# Altium integrated library Analog Devices Data Converters Analog-to-Digital Converters.IntLib: 2404 symbols (part 21 of 346)
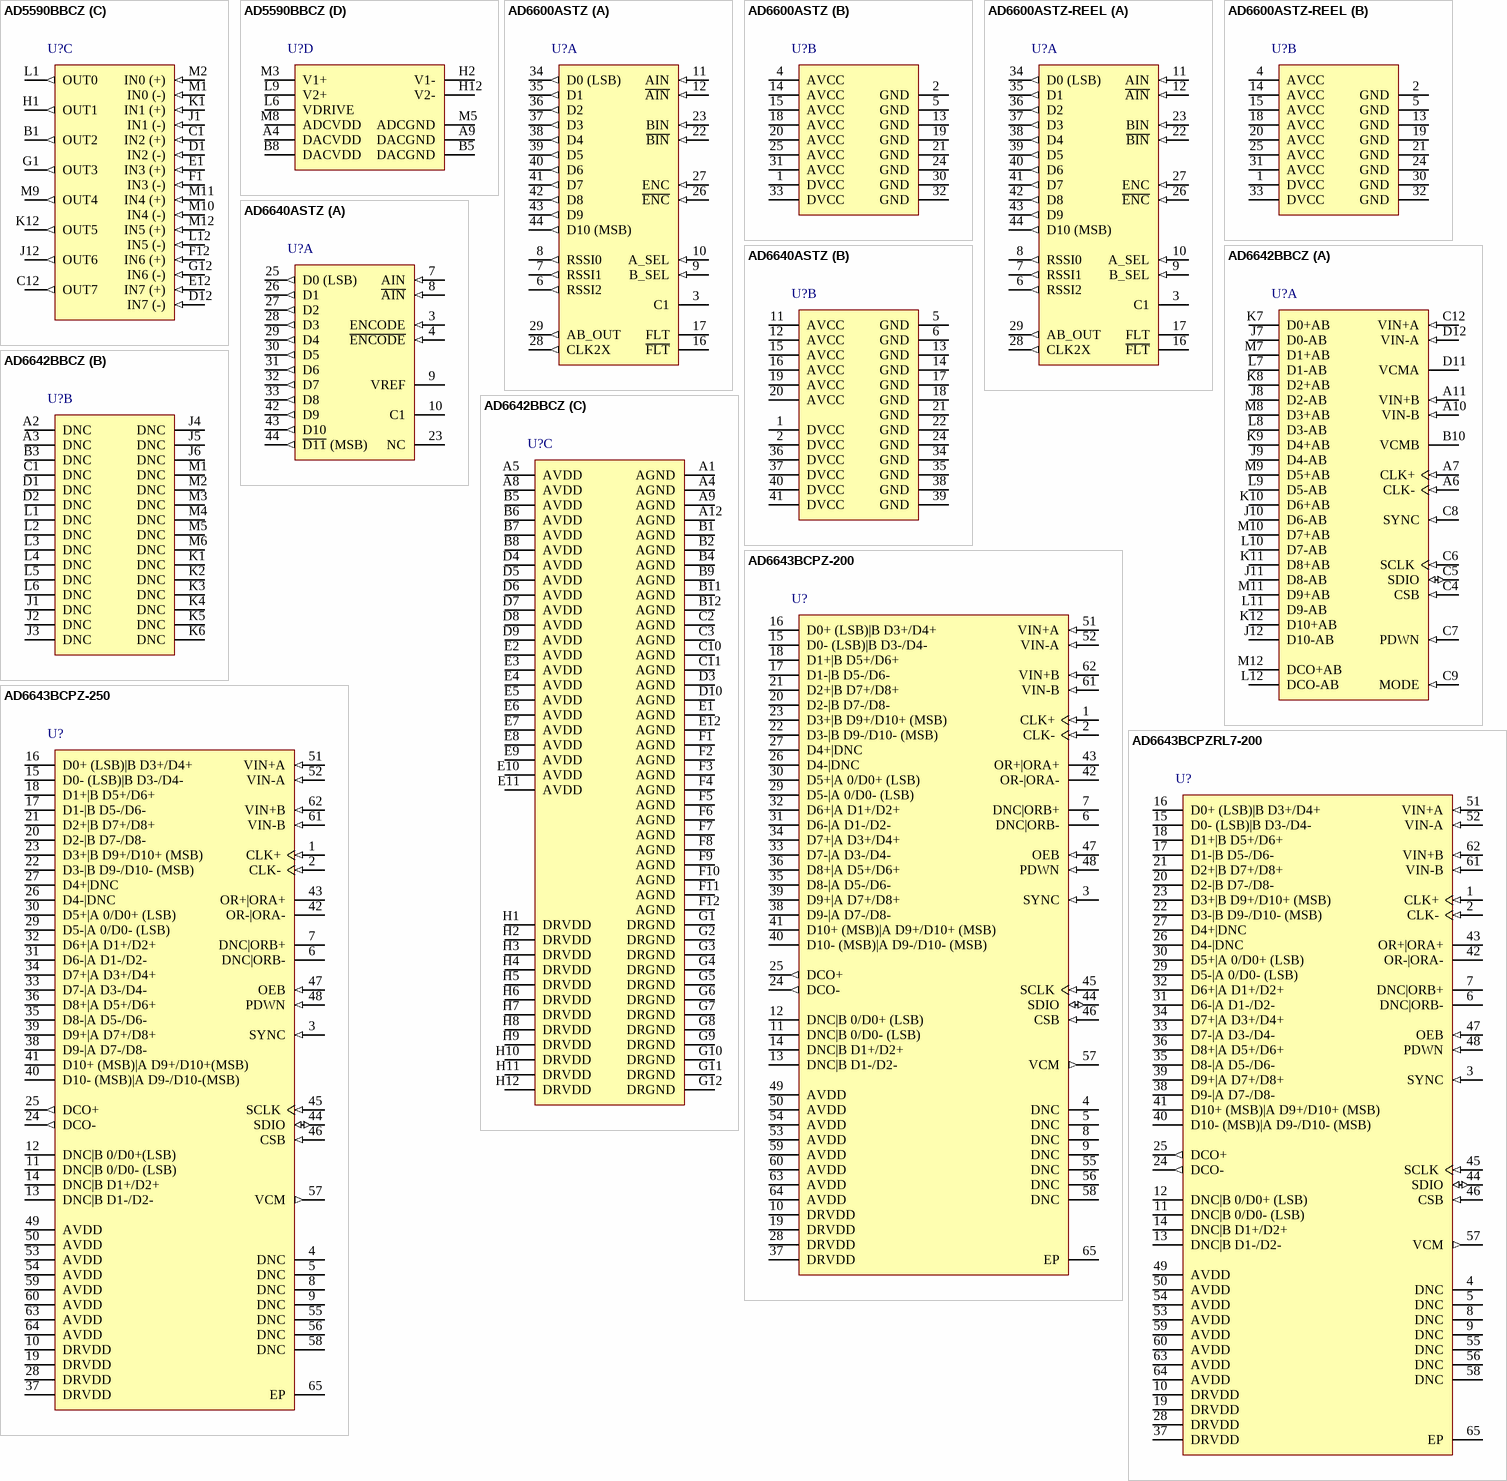
[diagram p166: symbols AD5590BBCZ to AD6643BCPZRL7-200]

## AD6600ASTZ
designator U?
Dual 11-Bit Gain-Ranging Analog-to-Digital Converter with Parallel Interface and RSSI, 20MSPS, -40 to +85 degC, ST-44-1, Pb-Free, Tray; Generic Part Number: AD6600; Manufacturer: Analog Devices; PartNumber: AD6600ASTZ; Resolution (Bits): 11; Channels: 2; Throughput Rate (SPS): 20M; Interface: Par; DatasheetVersion: Rev.0; PackageVersion: 051706-A; PackageReference: ST-44-1; PackageDescription: 44-Lead Low Profile Quad Flat Package [LQFP]; Supplier 1: Digi-Key; Supplier Part Number 1: AD6600ASTZ-ND; Supplier 2: Mouser; Supplier Part Number 2: 584-AD6600ASTZ; RoHS: Y; Packing: Tray; Mounting Technology: Surface Mount; ComponentLink1Description: Manufacturer URL; ComponentLink1URL: http://www.analog.com/en/index.html; ComponentLink2Description: Datasheet; ComponentLink2URL: http://www.analog.com/static/imported-files/data_sheets/AD6600.pdf; ComponentLink3Description: Package Specification; ComponentLink3URL: http://www.analog.com/static/imported-files/packages/52366619645036ST_44_1.pdf; ComponentLink4Description: Product URL; ComponentLink4URL: http://www.analog.com/en/analog-to-digital-converters/ad-converters/ad6600/products/product.html
footprint ST-44-1_N (Thin QFP, 44-Leads, Body 10x10mm, Pitch 0.8mm, IPC Medium Density)
footprint ST-44-1_L (Thin QFP, 44-Leads, Body 10x10mm, Pitch 0.8mm, IPC High Density)
footprint ST-44-1_M (Thin QFP, 44-Leads, Body 10x10mm, Pitch 0.8mm, IPC Low Density)
part A pins: 3 C1 "Internal Bias Point. Bypass by 0.01 uF to GND.", 6 RSSI2 (out) "RSSI Digital Output Bits.", 7 RSSI1 (out) "RSSI Digital Output Bits.", 8 RSSI0 (out) "RSSI Digital Output Bits.", 9 B_SEL (in) "Mode Select Pins for Analog Input Channel A and B Sampling.", 10 A_SEL (in) "Mode Select Pins for Analog Input Channel A and B Sampling.", 11 AIN (in) "True Analog Input Channel A.", 12 ~{AIN} (in) "Complementary Analog Input Channel A.", 16 ~{FLT} "Resonant Filter Pins for External LC Noise Filter.", 17 FLT "Resonant Filter Pins for External LC Noise Filter.", 22 ~{BIN} (in) "Complementary Analog Input Channel B.", 23 BIN (in) "True Analog Input Channel B.", 26 ~{ENC} (in) "Complementary Encode Input.", 27 ENC (in) "True Encode Input.", 28 CLK2X (out) "2x Clock Output Used for Clocking Digital Filter Chips.", 29 AB_OUT (out) "Digital Output Flag Indicating Whether Output Is Input A (High) or B (Low).", 34 D0 (LSB) (out) "Digital Data Output Bit (Least Significant Bit)*.", 35 D1 (out) "Digital Data Output Bits*", 36 D2 (out) "Digital Data Output Bits*", 37 D3 (out) "Digital Data Output Bits*", 38 D4 (out) "Digital Data Output Bits*", 39 D5 (out) "Digital Data Output Bits*", 40 D6 (out) "Digital Data Output Bits*", 41 D7 (out) "Digital Data Output Bits*", 42 D8 (out) "Digital Data Output Bits*", 43 D9 (out) "Digital Data Output Bits*", 44 D10 (MSB) (out) "Digital Data Output Bit (Most Significant Bit)*"
part B pins: 1 DVCC (power) "Digital VCC for Digital Outputs. Can be 3.3 V.", 2 GND (power) "Ground.", 4 AVCC (power) "5 V Power Supply.", 5 GND (power) "Ground.", 13 GND (power) "Ground.", 14 AVCC (power) "5 V Power Supply.", 15 AVCC (power) "5 V Power Supply.", 18 AVCC (power) "5 V Power Supply.", 19 GND (power) "Ground.", 20 AVCC (power) "5 V Power Supply.", 21 GND (power) "Ground.", 24 GND (power) "Ground.", 25 AVCC (power) "5 V Power Supply.", 30 GND (power) "Ground.", 31 AVCC (power) "5 V Power Supply.", 32 GND (power) "Ground.", 33 DVCC (power) "Digital VCC for Digital Outputs. Can be 3.3 V."

## AD6600ASTZ-REEL
designator U?
Dual 11-Bit Gain-Ranging Analog-to-Digital Converter with Parallel Interface and RSSI, 20MSPS, -40 to +85 degC, ST-44-1, Pb-Free, Reel; Generic Part Number: AD6600; Manufacturer: Analog Devices; PartNumber: AD6600ASTZ-REEL; Resolution (Bits): 11; Channels: 2; Throughput Rate (SPS): 20M; Interface: Par; DatasheetVersion: Rev.0; PackageVersion: 051706-A; PackageReference: ST-44-1; PackageDescription: 44-Lead Low Profile Quad Flat Package [LQFP]; Supplier 1: Digi-Key; Supplier Part Number 1: AD6600ASTZ-REEL-ND; Supplier 2: Mouser; Supplier Part Number 2: 584-AD6600ASTZ-R; RoHS: Y; Packing: Reel; Mounting Technology: Surface Mount; ComponentLink1Description: Manufacturer URL; ComponentLink1URL: http://www.analog.com/en/index.html; ComponentLink2Description: Datasheet; ComponentLink2URL: http://www.analog.com/static/imported-files/data_sheets/AD6600.pdf; ComponentLink3Description: Package Specification; ComponentLink3URL: http://www.analog.com/static/imported-files/packages/52366619645036ST_44_1.pdf; ComponentLink4Description: Product URL; ComponentLink4URL: http://www.analog.com/en/analog-to-digital-converters/ad-converters/ad6600/products/product.html
footprint ST-44-1_N (Thin QFP, 44-Leads, Body 10x10mm, Pitch 0.8mm, IPC Medium Density)
footprint ST-44-1_L (Thin QFP, 44-Leads, Body 10x10mm, Pitch 0.8mm, IPC High Density)
footprint ST-44-1_M (Thin QFP, 44-Leads, Body 10x10mm, Pitch 0.8mm, IPC Low Density)
part A pins: 3 C1 "Internal Bias Point. Bypass by 0.01 uF to GND.", 6 RSSI2 (out) "RSSI Digital Output Bits.", 7 RSSI1 (out) "RSSI Digital Output Bits.", 8 RSSI0 (out) "RSSI Digital Output Bits.", 9 B_SEL (in) "Mode Select Pins for Analog Input Channel A and B Sampling.", 10 A_SEL (in) "Mode Select Pins for Analog Input Channel A and B Sampling.", 11 AIN (in) "True Analog Input Channel A.", 12 ~{AIN} (in) "Complementary Analog Input Channel A.", 16 ~{FLT} "Resonant Filter Pins for External LC Noise Filter.", 17 FLT "Resonant Filter Pins for External LC Noise Filter.", 22 ~{BIN} (in) "Complementary Analog Input Channel B.", 23 BIN (in) "True Analog Input Channel B.", 26 ~{ENC} (in) "Complementary Encode Input.", 27 ENC (in) "True Encode Input.", 28 CLK2X (out) "2x Clock Output Used for Clocking Digital Filter Chips.", 29 AB_OUT (out) "Digital Output Flag Indicating Whether Output Is Input A (High) or B (Low).", 34 D0 (LSB) (out) "Digital Data Output Bit (Least Significant Bit)*.", 35 D1 (out) "Digital Data Output Bits*", 36 D2 (out) "Digital Data Output Bits*", 37 D3 (out) "Digital Data Output Bits*", 38 D4 (out) "Digital Data Output Bits*", 39 D5 (out) "Digital Data Output Bits*", 40 D6 (out) "Digital Data Output Bits*", 41 D7 (out) "Digital Data Output Bits*", 42 D8 (out) "Digital Data Output Bits*", 43 D9 (out) "Digital Data Output Bits*", 44 D10 (MSB) (out) "Digital Data Output Bit (Most Significant Bit)*"
part B pins: 1 DVCC (power) "Digital VCC for Digital Outputs. Can be 3.3 V.", 2 GND (power) "Ground.", 4 AVCC (power) "5 V Power Supply.", 5 GND (power) "Ground.", 13 GND (power) "Ground.", 14 AVCC (power) "5 V Power Supply.", 15 AVCC (power) "5 V Power Supply.", 18 AVCC (power) "5 V Power Supply.", 19 GND (power) "Ground.", 20 AVCC (power) "5 V Power Supply.", 21 GND (power) "Ground.", 24 GND (power) "Ground.", 25 AVCC (power) "5 V Power Supply.", 30 GND (power) "Ground.", 31 AVCC (power) "5 V Power Supply.", 32 GND (power) "Ground.", 33 DVCC (power) "Digital VCC for Digital Outputs. Can be 3.3 V."

## AD6640ASTZ
designator U?
Single 12-Bit IF Sampling Analog-to-Digital Converter with Parallel Interface, 65MSPS, -40 to +85 degC, ST-44-1, Pb-Free, Tray; Generic Part Number: AD6640; Manufacturer: Analog Devices; PartNumber: AD6640ASTZ; Resolution (Bits): 12; Channels: 1; Throughput Rate (SPS): 65M; Interface: Par; DatasheetVersion: Rev.A; PackageVersion: 051706-A; PackageReference: ST-44-1; PackageDescription: 44-Lead Low Profile Quad Flat Package [LQFP]; Supplier 1: Digi-Key; Supplier Part Number 1: AD6640ASTZ-ND; Supplier 2: Farnell; Supplier Part Number 2: 2312692; Supplier 3: Newark; Supplier Part Number 3: 08P0871; Supplier 4: Mouser; Supplier Part Number 4: 584-AD6640ASTZ; RoHS: Y; Packing: Tray; Mounting Technology: Surface Mount; ComponentLink1Description: Manufacturer URL; ComponentLink1URL: http://www.analog.com/en/index.html; ComponentLink2Description: Datasheet; ComponentLink2URL: http://www.analog.com/static/imported-files/data_sheets/AD6640.pdf; ComponentLink3Description: Package Specification; ComponentLink3URL: http://www.analog.com/static/imported-files/packages/52366619645036ST_44_1.pdf; ComponentLink4Description: Product URL; ComponentLink4URL: http://www.analog.com/en/analog-to-digital-converters/ad-converters/ad6640/products/product.html
footprint ST-44-1_N (Thin QFP, 44-Leads, Body 10x10mm, Pitch 0.8mm, IPC Medium Density)
footprint ST-44-1_L (Thin QFP, 44-Leads, Body 10x10mm, Pitch 0.8mm, IPC High Density)
footprint ST-44-1_M (Thin QFP, 44-Leads, Body 10x10mm, Pitch 0.8mm, IPC Low Density)
part A pins: 3 ENCODE (in) "Encode Input. Data conversion initiated on rising edge.", 4 ~{ENCODE} (in) "Complement of ENCODE. Drive differentially with ENCODE or bypass to ground for single-ended clock mode. See Encoding the AD6640 section.", 7 AIN (in) "Analog Input", 8 ~{AIN} (in) "Complement of Analog Input", 9 VREF "Internal Voltage Reference. Nominally 2.4 V. Bypass to ground with 0.1 uF + 0.01 uF microwave chip capacitor.", 10 C1 "Internal Bias Point. Bypass to ground with 0.01 uF capacitor.", 23 NC "No Connect", 25 D0 (LSB) (out) "Digital Output Bit (Least Significant Bit)", 26 D1 (out) "Digital Output Bits", 27 D2 (out) "Digital Output Bits", 28 D3 (out) "Digital Output Bits", 29 D4 (out) "Digital Output Bits", 30 D5 (out) "Digital Output Bits", 31 D6 (out) "Digital Output Bits", 32 D7 (out) "Digital Output Bits", 33 D8 (out) "Digital Output Bits", 42 D9 (out) "Digital Output Bits", 43 D10 (out) "Digital Output Bits", 44 ~{D11} (MSB) (out) "Digital Output Bit (Most Significant Bit)"
part B pins: 1 DVCC (power) "3.3 V/5 V Power Supply (Digital). Powers output stage only.", 2 DVCC (power) "3.3 V/5 V Power Supply (Digital). Powers output stage only.", 5 GND (power) "Ground", 6 GND (power) "Ground", 11 AVCC (power) "5 V Power Supply (Analog)", 12 AVCC (power) "5 V Power Supply (Analog)", 13 GND (power) "Ground", 14 GND (power) "Ground", 15 AVCC (power) "5 V Power Supply (Analog)", 16 AVCC (power) "5 V Power Supply (Analog)", 17 GND (power) "Ground", 18 GND (power) "Ground", 19 AVCC (power) "5 V Power Supply (Analog)", 20 AVCC (power) "5 V Power Supply (Analog)", 21 GND (power) "Ground", 22 GND (power) "Ground", 24 GND (power) "Ground", 34 GND (power) "Ground", 35 GND (power) "Ground", 36 DVCC (power) "3.3 V/5 V Power Supply (Digital). Powers output stage only.", 37 DVCC (power) "3.3 V/5 V Power Supply (Digital). Powers output stage only.", 38 GND (power) "Ground", 39 GND (power) "Ground", 40 DVCC (power) "3.3 V/5 V Power Supply (Digital). Powers output stage only.", 41 DVCC (power) "3.3 V/5 V Power Supply (Digital). Powers output stage only."

## AD6642BBCZ
designator U?
Dual IF Receiver, 200MSPS, -40 to +85 degC, BC-144-1, Pb-Free, Tray; Generic Part Number: AD6642; Manufacturer: Analog Devices; PartNumber: AD6642BBCZ; Channels: 2; Throughput Rate (SPS): 200M; DatasheetVersion: Rev.A; PackageVersion: 012006-0; PackageReference: BC-144-1; PackageDescription: 144-Ball Chip Scale Package Ball Grid Array [CSP_BGA]; Supplier 1: Digi-Key; Supplier Part Number 1: AD6642BBCZ-ND; RoHS: Y; Packing: Tray; Mounting Technology: Surface Mount; Code_JEDEC: MO-205-AC; ComponentLink1Description: Manufacturer URL; ComponentLink1URL: http://www.analog.com/en/index.html; ComponentLink2Description: Datasheet; ComponentLink2URL: http://www.analog.com/static/imported-files/data_sheets/AD6642.pdf; ComponentLink3Description: Package Specification; ComponentLink3URL: http://www.analog.com/static/imported-files/packages/453163286836504146030385BC_144_1.pdf; ComponentLink4Description: Product URL; ComponentLink4URL: http://www.analog.com/en/analog-to-digital-converters/integrated-receivers/ad6642/products/product.html
footprint BC-144-1 (BGA, 144-Leads, Body 10x10mm, Pitch 0.8mm)
part A pins: A6 CLK- (in) "ADC Clock Input--Complement", A7 CLK+ (in) "ADC Clock Input--True", A10 VIN-B (in) "Differential Analog Input Pin (-) for Channel B", A11 VIN+B (in) "Differential Analog Input Pin (+) for Channel B", B10 VCMB (hiz) "Common-Mode Level Bias Output for Analog Input Channel B", C4 CSB (in) "SPI Chip Select (Active Low)", C5 SDIO (io) "SPI Data", C6 SCLK (in) "SPI Clock", C7 PDWN (in) "Power-Down Input (Active High)", C8 SYNC (in) "Digital Synchronization Pin", C9 MODE (in) "Mode Select Pin (Logic Low Enables NSR; Logic High Disables NSR)", C12 VIN+A (in) "Differential Analog Input Pin (+) for Channel A", D11 VCMA (hiz) "Common-Mode Level Bias Output for Analog Input Channel A", D12 VIN-A (in) "Differential Analog Input Pin (-) for Channel A", J7 D0-AB (hiz) "Channel A and Channel B LVDS Output Data 0--Complement", J8 D2-AB (hiz) "Channel A and Channel B LVDS Output Data 2--Complement", J9 D4-AB (hiz) "Channel A and Channel B LVDS Output Data 4--Complement", J10 D6-AB (hiz) "Channel A and Channel B LVDS Output Data 6--Complement", J11 D8-AB (hiz) "Channel A and Channel B LVDS Output Data 8--Complement", J12 D10-AB (hiz) "Channel A and Channel B LVDS Output Data 10--Complement", K7 D0+AB (hiz) "Channel A and Channel B LVDS Output Data 0--True", K8 D2+AB (hiz) "Channel A and Channel B LVDS Output Data 2--True", K9 D4+AB (hiz) "Channel A and Channel B LVDS Output Data 4--True", K10 D6+AB (hiz) "Channel A and Channel B LVDS Output Data 6--True", K11 D8+AB (hiz) "Channel A and Channel B LVDS Output Data 8--True", K12 D10+AB (hiz) "Channel A and Channel B LVDS Output Data 10--True", L7 D1-AB (hiz) "Channel A and Channel B LVDS Output Data 1--Complement", L8 D3-AB (hiz) "Channel A and Channel B LVDS Output Data 3--Complement", L9 D5-AB (hiz) "Channel A and Channel B LVDS Output Data 5--Complement", L10 D7-AB (hiz) "Channel A and Channel B LVDS Output Data 7--Complement", L11 D9-AB (hiz) "Channel A and Channel B LVDS Output Data 9--Complement", L12 DCO-AB (hiz) "Data Clock LVDS Output for Channel A and Channel B--Complement", M7 D1+AB (hiz) "Channel A and Channel B LVDS Output Data 1--True", M8 D3+AB (hiz) "Channel A and Channel B LVDS Output Data 3--True", M9 D5+AB (hiz) "Channel A and Channel B LVDS Output Data 5--True", M10 D7+AB (hiz) "Channel A and Channel B LVDS Output Data 7--True", M11 D9+AB (hiz) "Channel A and Channel B LVDS Output Data 9--True", M12 DCO+AB (hiz) "Data Clock LVDS Output for Channel A and Channel B--True"
part B pins: A2 DNC "Do Not Connect", A3 DNC "Do Not Connect", B3 DNC "Do Not Connect", C1 DNC "Do Not Connect", D1 DNC "Do Not Connect", D2 DNC "Do Not Connect", J1 DNC "Do Not Connect", J2 DNC "Do Not Connect", J3 DNC "Do Not Connect", J4 DNC "Do Not Connect", J5 DNC "Do Not Connect", J6 DNC "Do Not Connect", K1 DNC "Do Not Connect", K2 DNC "Do Not Connect", K3 DNC "Do Not Connect", K4 DNC "Do Not Connect", K5 DNC "Do Not Connect", K6 DNC "Do Not Connect", L1 DNC "Do Not Connect", L2 DNC "Do Not Connect", L3 DNC "Do Not Connect", L4 DNC "Do Not Connect", L5 DNC "Do Not Connect", L6 DNC "Do Not Connect", M1 DNC "Do Not Connect", M2 DNC "Do Not Connect", M3 DNC "Do Not Connect", M4 DNC "Do Not Connect", M5 DNC "Do Not Connect", M6 DNC "Do Not Connect"
part C pins: A1 AGND (power) "Analog Ground", A4 AGND (power) "Analog Ground", A5 AVDD (power) "Analog Power Supply (1.8 V Nominal)", A8 AVDD (power) "Analog Power Supply (1.8 V Nominal)", A9 AGND (power) "Analog Ground", A12 AGND (power) "Analog Ground", B1 AGND (power) "Analog Ground", B2 AGND (power) "Analog Ground", B4 AGND (power) "Analog Ground", B5 AVDD (power) "Analog Power Supply (1.8 V Nominal)", B6 AVDD (power) "Analog Power Supply (1.8 V Nominal)", B7 AVDD (power) "Analog Power Supply (1.8 V Nominal)", B8 AVDD (power) "Analog Power Supply (1.8 V Nominal)", B9 AGND (power) "Analog Ground", B11 AGND (power) "Analog Ground", B12 AGND (power) "Analog Ground", C2 AGND (power) "Analog Ground", C3 AGND (power) "Analog Ground", C10 AGND (power) "Analog Ground", C11 AGND (power) "Analog Ground", D3 AGND (power) "Analog Ground", D4 AVDD (power) "Analog Power Supply (1.8 V Nominal)", D5 AVDD (power) "Analog Power Supply (1.8 V Nominal)", D6 AVDD (power) "Analog Power Supply (1.8 V Nominal)", D7 AVDD (power) "Analog Power Supply (1.8 V Nominal)", D8 AVDD (power) "Analog Power Supply (1.8 V Nominal)", D9 AVDD (power) "Analog Power Supply (1.8 V Nominal)", D10 AGND (power) "Analog Ground", E1 AGND (power) "Analog Ground", E2 AVDD (power) "Analog Power Supply (1.8 V Nominal)", E3 AVDD (power) "Analog Power Supply (1.8 V Nominal)", E4 AVDD (power) "Analog Power Supply (1.8 V Nominal)", E5 AVDD (power) "Analog Power Supply (1.8 V Nominal)", E6 AVDD (power) "Analog Power Supply (1.8 V Nominal)", E7 AVDD (power) "Analog Power Supply (1.8 V Nominal)", E8 AVDD (power) "Analog Power Supply (1.8 V Nominal)", E9 AVDD (power) "Analog Power Supply (1.8 V Nominal)", E10 AVDD (power) "Analog Power Supply (1.8 V Nominal)", E11 AVDD (power) "Analog Power Supply (1.8 V Nominal)", E12 AGND (power) "Analog Ground", F1 AGND (power) "Analog Ground", F2 AGND (power) "Analog Ground", F3 AGND (power) "Analog Ground", F4 AGND (power) "Analog Ground", F5 AGND (power) "Analog Ground", F6 AGND (power) "Analog Ground", F7 AGND (power) "Analog Ground", F8 AGND (power) "Analog Ground", F9 AGND (power) "Analog Ground", F10 AGND (power) "Analog Ground", F11 AGND (power) "Analog Ground", F12 AGND (power) "Analog Ground", G1 DRGND (power) "Digital Output Driver Ground", G2 DRGND (power) "Digital Output Driver Ground", G3 DRGND (power) "Digital Output Driver Ground", G4 DRGND (power) "Digital Output Driver Ground", G5 DRGND (power) "Digital Output Driver Ground", G6 DRGND (power) "Digital Output Driver Ground", G7 DRGND (power) "Digital Output Driver Ground", G8 DRGND (power) "Digital Output Driver Ground", G9 DRGND (power) "Digital Output Driver Ground", G10 DRGND (power) "Digital Output Driver Ground", G11 DRGND (power) "Digital Output Driver Ground", G12 DRGND (power) "Digital Output Driver Ground", H1 DRVDD (power) "Digital Output Driver Supply (1.8 V Nominal)", H2 DRVDD (power) "Digital Output Driver Supply (1.8 V Nominal)", H3 DRVDD (power) "Digital Output Driver Supply (1.8 V Nominal)", H4 DRVDD (power) "Digital Output Driver Supply (1.8 V Nominal)", H5 DRVDD (power) "Digital Output Driver Supply (1.8 V Nominal)", H6 DRVDD (power) "Digital Output Driver Supply (1.8 V Nominal)", H7 DRVDD (power) "Digital Output Driver Supply (1.8 V Nominal)", H8 DRVDD (power) "Digital Output Driver Supply (1.8 V Nominal)", H9 DRVDD (power) "Digital Output Driver Supply (1.8 V Nominal)", H10 DRVDD (power) "Digital Output Driver Supply (1.8 V Nominal)", H11 DRVDD (power) "Digital Output Driver Supply (1.8 V Nominal)", H12 DRVDD (power) "Digital Output Driver Supply (1.8 V Nominal)"

## AD6643BCPZ-200
designator U?
Dual 11-Bit IF Receiver with LVDS Interface, 200MSPS, -40 to +85 degC, CP-64-4, Pb-Free, Tray; Generic Part Number: AD6643-200; Manufacturer: Analog Devices; PartNumber: AD6643BCPZ-200; Resolution (Bits): 11; Channels: 2; Throughput Rate (SPS): 250M; DatasheetVersion: Rev.A; PackageVersion: 051007-C; PackageReference: CP-64-4; PackageDescription: 64-Lead Lead Frame Chip Scale Package [LFCSP_VQ] 9 x 9 mm Body, Very Thin Quad; Supplier 1: Digi-Key; Supplier Part Number 1: AD6643BCPZ-200-ND; Supplier 2: Newark; Supplier Part Number 2: 45T0226; Supplier 3: Mouser; Supplier Part Number 3: 584-AD6643BCPZ-200; Interface: LVDS; RoHS: Y; Packing: Tray; Mounting Technology: Surface Mount; Code_JEDEC: MO-220-VMMD-4; ComponentLink1Description: Manufacturer URL; ComponentLink1URL: http://www.analog.com/en/index.html; ComponentLink2Description: Datasheet; ComponentLink2URL: http://www.analog.com/static/imported-files/data_sheets/AD6643.pdf; ComponentLink3Description: Package Specification; ComponentLink3URL: http://www.analog.com/static/imported-files/packages/PKG_PDF/LFCSP(CP)/CP_64_4.pdf; ComponentLink4Description: Product URL; ComponentLink4URL: http://www.analog.com/en/analog-to-digital-converters/integrated-receivers/ad6643/products/product.html
footprint CP-64-4_N (QFN, 64-Leads, Body 9x9mm, Pitch 0.5mm, Thermal Pad 6.2x6.2mm, IPC Medium Density)
footprint CP-64-4_L (QFN, 64-Leads, Body 9x9mm, Pitch 0.5mm, Thermal Pad 6.2x6.2mm, IPC High Density)
footprint CP-64-4_M (QFN, 64-Leads, Body 9x9mm, Pitch 0.5mm, Thermal Pad 6.2x6.2mm, IPC Low Density)
pins: 1 CLK+ (in) "ADC Clock Input--True.", 2 CLK- (in) "ADC Clock Input--Complement.", 3 SYNC (in) "Digital Synchronization Pin. Slave mode only.", 4 DNC "Do Not Connect. Do not connect to these pins.", 5 DNC "Do Not Connect. Do not connect to these pins.", 6 DNC|ORB- (hiz), 7 DNC|ORB+ (hiz), 8 DNC "Do Not Connect. Do not connect to these pins.", 9 DNC "Do Not Connect. Do not connect to these pins.", 10 DRVDD (power) "Digital Output Driver Supply (1.8 V Nominal).", 11 DNC|B 0/D0- (LSB) (hiz), 12 DNC|B 0/D0+ (LSB) (hiz), 13 DNC|B D1-/D2- (hiz), 14 DNC|B D1+/D2+ (hiz), 15 D0- (LSB)|B D3-/D4- (hiz), 16 D0+ (LSB)|B D3+/D4+ (hiz), 17 D1-|B D5-/D6- (hiz), 18 D1+|B D5+/D6+ (hiz), 19 DRVDD (power) "Digital Output Driver Supply (1.8 V Nominal).", 20 D2-|B D7-/D8- (hiz), 21 D2+|B D7+/D8+ (hiz), 22 D3-|B D9-/D10- (MSB) (hiz), 23 D3+|B D9+/D10+ (MSB) (hiz), 24 DCO- (out) "Channel A/Channel B LVDS Data Clock Output--Complement.", 25 DCO+ (out) "Channel A/Channel B LVDS Data Clock Output--True.", 26 D4-|DNC (hiz), 27 D4+|DNC (hiz), 28 DRVDD (power) "Digital Output Driver Supply (1.8 V Nominal).", 29 D5-|A 0/D0- (LSB) (hiz), 30 D5+|A 0/D0+ (LSB) (hiz), 31 D6-|A D1-/D2- (hiz), 32 D6+|A D1+/D2+ (hiz), 33 D7-|A D3-/D4- (hiz), 34 D7+|A D3+/D4+ (hiz), 35 D8-|A D5-/D6- (hiz), 36 D8+|A D5+/D6+ (hiz), 37 DRVDD (power) "Digital Output Driver Supply (1.8 V Nominal).", 38 D9-|A D7-/D8- (hiz), 39 D9+|A D7+/D8+ (hiz), 40 D10- (MSB)|A D9-/D10- (MSB) (hiz), 41 D10+ (MSB)|A D9+/D10+ (MSB) (hiz), 42 OR-|ORA- (hiz), 43 OR+|ORA+ (hiz), 44 SDIO (io) "SPI Serial Data I/O. A dual purpose pin that typically serves as an input or  an output, depending on the instruction being sent and the relative  position in the timing frame.", 45 SCLK (in) "SPI Serial Clock. The serial shift clock input, which is used to synchronize  serial interface reads and writes.", 46 CSB (in) "Chip Select Bar (Active Low). CSB gates the read and write cycles.", 47 OEB (in) "Output Enable Bar Input (Active Low).", 48 PDWN (in) "Power-Down Input (Active High). The operation of this pin depends on  the SPI mode and can be configured as power-down or standby (see  Table 14).", 49 AVDD (power) "Analog Power Supply (1.8 V Nominal).", 50 AVDD (power) "Analog Power Supply (1.8 V Nominal).", 51 VIN+A (in) "Differential Analog Input Pin (+) for Channel A.", 52 VIN-A (in) "Differential Analog Input Pin (-) for Channel A.", 53 AVDD (power) "Analog Power Supply (1.8 V Nominal).", 54 AVDD (power) "Analog Power Supply (1.8 V Nominal).", 55 DNC "Do Not Connect. Do not connect to these pins.", 56 DNC "Do Not Connect. Do not connect to these pins.", 57 VCM (out) "Common-Mode Level Bias Output for Analog Inputs. This pin should be  decoupled to ground using a 0.1 uF capacitor.", 58 DNC "Do Not Connect. Do not connect to these pins.", 59 AVDD (power) "Analog Power Supply (1.8 V Nominal).", 60 AVDD (power) "Analog Power Supply (1.8 V Nominal).", 61 VIN-B (in) "Differential Analog Input Pin (-) for Channel B.", 62 VIN+B (in) "Differential Analog Input Pin (+) for Channel B.", 63 AVDD (power) "Analog Power Supply (1.8 V Nominal).", 64 AVDD (power) "Analog Power Supply (1.8 V Nominal).", 65 EP (power) "Analog Ground. The exposed thermal paddle on the bottom of the  package provides the analog ground for the device. This exposed paddle  must be connected to ground for proper operation."

## AD6643BCPZ-250
designator U?
Dual 11-Bit IF Receiver with LVDS Interface, 250MSPS, -40 to +85 degC, CP-64-4, Pb-Free, Tray; Generic Part Number: AD6643-250; Manufacturer: Analog Devices; PartNumber: AD6643BCPZ-250; Resolution (Bits): 11; Channels: 2; Throughput Rate (SPS): 250M; DatasheetVersion: Rev. B; PackageVersion: 051007-C; PackageReference: CP-64-4; PackageDescription: 64-Lead Lead Frame Chip Scale Package [LFCSP_VQ] 9 x 9 mm Body, Very Thin Quad; Supplier 1: Digi-Key; Supplier Part Number 1: AD6643BCPZ-250-ND; Supplier 2: Mouser; Supplier Part Number 2: 584-AD6643BCPZ-250; Interface: LVDS; RoHS: Y; Packing: Tray; Mounting Technology: Surface Mount; Code_JEDEC: MO-220-VMMD-4; ComponentLink1Description: Manufacturer URL; ComponentLink1URL: http://www.analog.com/en/index.html; ComponentLink2Description: Datasheet; ComponentLink2URL: http://www.analog.com/static/imported-files/data_sheets/AD6643.pdf; ComponentLink3Description: Package Specification; ComponentLink3URL: http://www.analog.com/static/imported-files/packages/PKG_PDF/LFCSP(CP)/CP_64_4.pdf; ComponentLink4Description: Product URL; ComponentLink4URL: http://www.analog.com/en/analog-to-digital-converters/integrated-receivers/ad6643/products/product.html
footprint CP-64-4_N (QFN, 64-Leads, Body 9x9mm, Pitch 0.5mm, Thermal Pad 6.2x6.2mm, IPC Medium Density)
footprint CP-64-4_L (QFN, 64-Leads, Body 9x9mm, Pitch 0.5mm, Thermal Pad 6.2x6.2mm, IPC High Density)
footprint CP-64-4_M (QFN, 64-Leads, Body 9x9mm, Pitch 0.5mm, Thermal Pad 6.2x6.2mm, IPC Low Density)
pins: 1 CLK+ (in) "ADC Clock Input--True.", 2 CLK- (in) "ADC Clock Input--Complement.", 3 SYNC (in) "Digital Synchronization Pin. Slave mode only.", 4 DNC "Do Not Connect. Do not connect to these pins.", 5 DNC "Do Not Connect. Do not connect to these pins.", 6 DNC|ORB- (hiz), 7 DNC|ORB+ (hiz), 8 DNC "Do Not Connect. Do not connect to these pins.", 9 DNC "Do Not Connect. Do not connect to these pins.", 10 DRVDD (power) "Digital Output Driver Supply (1.8 V Nominal).", 11 DNC|B 0/D0- (LSB) (hiz), 12 DNC|B 0/D0+(LSB) (hiz), 13 DNC|B D1-/D2- (hiz), 14 DNC|B D1+/D2+ (hiz), 15 D0- (LSB)|B D3-/D4- (hiz), 16 D0+ (LSB)|B D3+/D4+ (hiz), 17 D1-|B D5-/D6- (hiz), 18 D1+|B D5+/D6+ (hiz), 19 DRVDD (power) "Digital Output Driver Supply (1.8 V Nominal).", 20 D2-|B D7-/D8- (hiz), 21 D2+|B D7+/D8+ (hiz), 22 D3-|B D9-/D10- (MSB) (hiz), 23 D3+|B D9+/D10+ (MSB) (hiz), 24 DCO- (out) "Channel A/Channel B LVDS Data Clock Output--Complement.", 25 DCO+ (out) "Channel A/Channel B LVDS Data Clock Output--True.", 26 D4-|DNC (hiz), 27 D4+|DNC (hiz), 28 DRVDD (power) "Digital Output Driver Supply (1.8 V Nominal).", 29 D5-|A 0/D0- (LSB) (hiz), 30 D5+|A 0/D0+ (LSB) (hiz), 31 D6-|A D1-/D2- (hiz), 32 D6+|A D1+/D2+ (hiz), 33 D7-|A D3-/D4- (hiz), 34 D7+|A D3+/D4+ (hiz), 35 D8-|A D5-/D6- (hiz), 36 D8+|A D5+/D6+ (hiz), 37 DRVDD (power) "Digital Output Driver Supply (1.8 V Nominal).", 38 D9-|A D7-/D8- (hiz), 39 D9+|A D7+/D8+ (hiz), 40 D10- (MSB)|A D9-/D10-(MSB) (hiz), 41 D10+ (MSB)|A D9+/D10+(MSB) (hiz), 42 OR-|ORA- (hiz), 43 OR+|ORA+ (hiz), 44 SDIO (io) "SPI Serial Data I/O. A dual purpose pin that typically serves as an input or an output, depending on the instruction being sent and the relative position in the timing frame.", 45 SCLK (in) "SPI Serial Clock. The serial shift clock input, which is used to synchronize serial interface reads and writes.", 46 CSB (in) "serial interface reads and writes.", 47 OEB (in) "Output Enable Bar Input (Active Low).", 48 PDWN (in) "Power-Down Input (Active High). The operation of this pin depends on the SPI mode and can be configured as power-down or standby (see Table 14).", 49 AVDD (power) "Analog Power Supply (1.8 V Nominal).", 50 AVDD (power) "Analog Power Supply (1.8 V Nominal).", 51 VIN+A (in) "Differential Analog Input Pin (+) for Channel A.", 52 VIN-A (in) "Differential Analog Input Pin (-) for Channel A.", 53 AVDD (power) "Analog Power Supply (1.8 V Nominal).", 54 AVDD (power) "Analog Power Supply (1.8 V Nominal).", 55 DNC "Do Not Connect. Do not connect to these pins.", 56 DNC "Do Not Connect. Do not connect to these pins.", 57 VCM (out) "Common-Mode Level Bias Output for Analog Inputs. This pin should be decoupled to ground using a 0.1 uf capacitor.", 58 DNC "Do Not Connect. Do not connect to these pins.", 59 AVDD (power) "Analog Power Supply (1.8 V Nominal).", 60 AVDD (power) "Analog Power Supply (1.8 V Nominal).", 61 VIN-B (in) "Differential Analog Input Pin (-) for Channel B.", 62 VIN+B (in) "Differential Analog Input Pin (+) for Channel B.", 63 AVDD (power) "Analog Power Supply (1.8 V Nominal).", 64 AVDD (power) "Analog Power Supply (1.8 V Nominal).", 65 EP (power) "Analog Ground. The exposed thermal paddle on the bottom of the package provides the analog ground for the device. This exposed paddle must be connected to ground for proper operation."

## AD6643BCPZRL7-200
designator U?
Dual 11-Bit IF Receiver with LVDS Interface, 200MSPS, -40 to +85 degC, CP-64-4, Pb-Free, Reel; Generic Part Number: AD6643-200; Manufacturer: Analog Devices; PartNumber: AD6643BCPZRL7-200; Resolution (Bits): 11; Channels: 2; Throughput Rate (SPS): 250M; DatasheetVersion: Rev.A; PackageVersion: 051007-C; PackageReference: CP-64-4; PackageDescription: 64-Lead Lead Frame Chip Scale Package [LFCSP_VQ] 9 x 9 mm Body, Very Thin Quad; Supplier 1: Digi-Key; Supplier Part Number 1: AD6643BCPZRL7-200-ND; Supplier 2: Mouser; Supplier Part Number 2: 584-AD6643BCPZR7-200; Interface: LVDS; RoHS: Y; Packing: Reel; Mounting Technology: Surface Mount; Code_JEDEC: MO-220-VMMD-4; ComponentLink1Description: Manufacturer URL; ComponentLink1URL: http://www.analog.com/en/index.html; ComponentLink2Description: Datasheet; ComponentLink2URL: http://www.analog.com/static/imported-files/data_sheets/AD6643.pdf; ComponentLink3Description: Package Specification; ComponentLink3URL: http://www.analog.com/static/imported-files/packages/PKG_PDF/LFCSP(CP)/CP_64_4.pdf; ComponentLink4Description: Product URL; ComponentLink4URL: http://www.analog.com/en/analog-to-digital-converters/integrated-receivers/ad6643/products/product.html
footprint CP-64-4_N (QFN, 64-Leads, Body 9x9mm, Pitch 0.5mm, Thermal Pad 6.2x6.2mm, IPC Medium Density)
footprint CP-64-4_L (QFN, 64-Leads, Body 9x9mm, Pitch 0.5mm, Thermal Pad 6.2x6.2mm, IPC High Density)
footprint CP-64-4_M (QFN, 64-Leads, Body 9x9mm, Pitch 0.5mm, Thermal Pad 6.2x6.2mm, IPC Low Density)
pins: 1 CLK+ (in) "ADC Clock Input--True.", 2 CLK- (in) "ADC Clock Input--Complement.", 3 SYNC (in) "Digital Synchronization Pin. Slave mode only.", 4 DNC "Do Not Connect. Do not connect to these pins.", 5 DNC "Do Not Connect. Do not connect to these pins.", 6 DNC|ORB- (hiz), 7 DNC|ORB+ (hiz), 8 DNC "Do Not Connect. Do not connect to these pins.", 9 DNC "Do Not Connect. Do not connect to these pins.", 10 DRVDD (power) "Digital Output Driver Supply (1.8 V Nominal).", 11 DNC|B 0/D0- (LSB) (hiz), 12 DNC|B 0/D0+ (LSB) (hiz), 13 DNC|B D1-/D2- (hiz), 14 DNC|B D1+/D2+ (hiz), 15 D0- (LSB)|B D3-/D4- (hiz), 16 D0+ (LSB)|B D3+/D4+ (hiz), 17 D1-|B D5-/D6- (hiz), 18 D1+|B D5+/D6+ (hiz), 19 DRVDD (power) "Digital Output Driver Supply (1.8 V Nominal).", 20 D2-|B D7-/D8- (hiz), 21 D2+|B D7+/D8+ (hiz), 22 D3-|B D9-/D10- (MSB) (hiz), 23 D3+|B D9+/D10+ (MSB) (hiz), 24 DCO- (out) "Channel A/Channel B LVDS Data Clock Output--Complement.", 25 DCO+ (out) "Channel A/Channel B LVDS Data Clock Output--True.", 26 D4-|DNC (hiz), 27 D4+|DNC (hiz), 28 DRVDD (power) "Digital Output Driver Supply (1.8 V Nominal).", 29 D5-|A 0/D0- (LSB) (hiz), 30 D5+|A 0/D0+ (LSB) (hiz), 31 D6-|A D1-/D2- (hiz), 32 D6+|A D1+/D2+ (hiz), 33 D7-|A D3-/D4- (hiz), 34 D7+|A D3+/D4+ (hiz), 35 D8-|A D5-/D6- (hiz), 36 D8+|A D5+/D6+ (hiz), 37 DRVDD (power) "Digital Output Driver Supply (1.8 V Nominal).", 38 D9-|A D7-/D8- (hiz), 39 D9+|A D7+/D8+ (hiz), 40 D10- (MSB)|A D9-/D10- (MSB) (hiz), 41 D10+ (MSB)|A D9+/D10+ (MSB) (hiz), 42 OR-|ORA- (hiz), 43 OR+|ORA+ (hiz), 44 SDIO (io) "SPI Serial Data I/O. A dual purpose pin that typically serves as an input or  an output, depending on the instruction being sent and the relative  position in the timing frame.", 45 SCLK (in) "SPI Serial Clock. The serial shift clock input, which is used to synchronize  serial interface reads and writes.", 46 CSB (in) "Chip Select Bar (Active Low). CSB gates the read and write cycles.", 47 OEB (in) "Output Enable Bar Input (Active Low).", 48 PDWN (in) "Power-Down Input (Active High). The operation of this pin depends on  the SPI mode and can be configured as power-down or standby (see  Table 14).", 49 AVDD (power) "Analog Power Supply (1.8 V Nominal).", 50 AVDD (power) "Analog Power Supply (1.8 V Nominal).", 51 VIN+A (in) "Differential Analog Input Pin (+) for Channel A.", 52 VIN-A (in) "Differential Analog Input Pin (-) for Channel A.", 53 AVDD (power) "Analog Power Supply (1.8 V Nominal).", 54 AVDD (power) "Analog Power Supply (1.8 V Nominal).", 55 DNC "Do Not Connect. Do not connect to these pins.", 56 DNC "Do Not Connect. Do not connect to these pins.", 57 VCM (out) "Common-Mode Level Bias Output for Analog Inputs. This pin should be  decoupled to ground using a 0.1 uF capacitor.", 58 DNC "Do Not Connect. Do not connect to these pins.", 59 AVDD (power) "Analog Power Supply (1.8 V Nominal).", 60 AVDD (power) "Analog Power Supply (1.8 V Nominal).", 61 VIN-B (in) "Differential Analog Input Pin (-) for Channel B.", 62 VIN+B (in) "Differential Analog Input Pin (+) for Channel B.", 63 AVDD (power) "Analog Power Supply (1.8 V Nominal).", 64 AVDD (power) "Analog Power Supply (1.8 V Nominal).", 65 EP (power) "Analog Ground. The exposed thermal paddle on the bottom of the  package provides the analog ground for the device. This exposed paddle  must be connected to ground for proper operation."

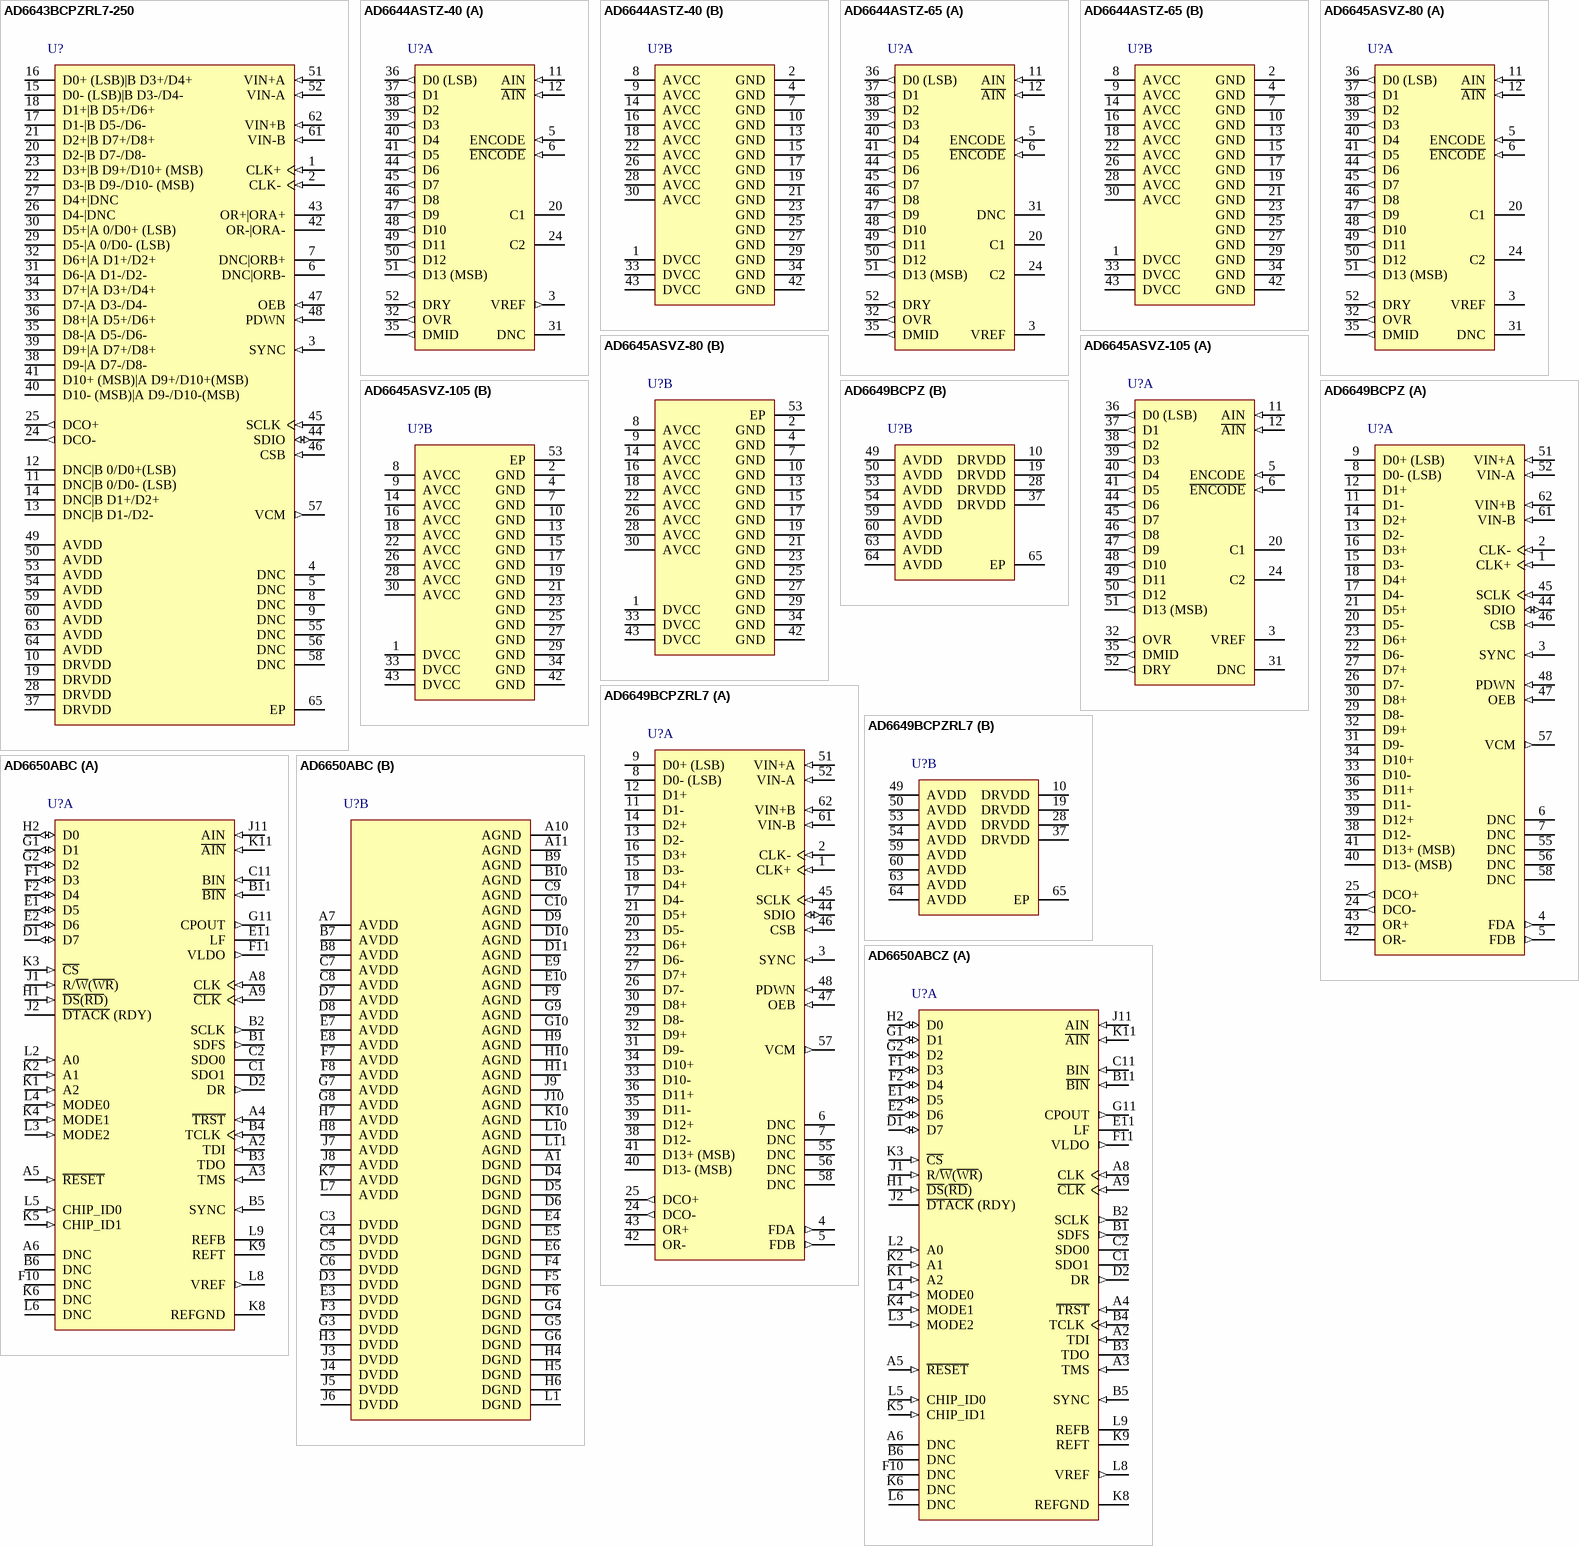
[diagram p8: symbols AD6643BCPZRL7-250 to AD6650ABCZ]

## AD6643BCPZRL7-250
designator U?
Dual 11-Bit IF Receiver with LVDS Interface, 250MSPS, -40 to +85 degC, CP-64-4, Pb-Free, Reel; Generic Part Number: AD6643-250; Manufacturer: Analog Devices; PartNumber: AD6643BCPZRL7-250; Resolution (Bits): 11; Channels: 2; Throughput Rate (SPS): 250M; DatasheetVersion: Rev. B; PackageVersion: 051007-C; PackageReference: CP-64-4; PackageDescription: 64-Lead Lead Frame Chip Scale Package [LFCSP_VQ] 9 x 9 mm Body, Very Thin Quad; Supplier 1: Digi-Key; Supplier Part Number 1: AD6643BCPZRL7-250-ND; Supplier 2: Mouser; Supplier Part Number 2: 584-AD6643BCPZR7-250; Interface: LVDS; RoHS: Y; Packing: Reel; Mounting Technology: Surface Mount; Code_JEDEC: MO-220-VMMD-4; ComponentLink1Description: Manufacturer URL; ComponentLink1URL: http://www.analog.com/en/index.html; ComponentLink2Description: Datasheet; ComponentLink2URL: http://www.analog.com/static/imported-files/data_sheets/AD6643.pdf; ComponentLink3Description: Package Specification; ComponentLink3URL: http://www.analog.com/static/imported-files/packages/PKG_PDF/LFCSP(CP)/CP_64_4.pdf; ComponentLink4Description: Product URL; ComponentLink4URL: http://www.analog.com/en/analog-to-digital-converters/integrated-receivers/ad6643/products/product.html
footprint CP-64-4_N (QFN, 64-Leads, Body 9x9mm, Pitch 0.5mm, Thermal Pad 6.2x6.2mm, IPC Medium Density)
footprint CP-64-4_L (QFN, 64-Leads, Body 9x9mm, Pitch 0.5mm, Thermal Pad 6.2x6.2mm, IPC High Density)
footprint CP-64-4_M (QFN, 64-Leads, Body 9x9mm, Pitch 0.5mm, Thermal Pad 6.2x6.2mm, IPC Low Density)
pins: 1 CLK+ (in) "ADC Clock Input--True.", 2 CLK- (in) "ADC Clock Input--Complement.", 3 SYNC (in) "Digital Synchronization Pin. Slave mode only.", 4 DNC "Do Not Connect. Do not connect to these pins.", 5 DNC "Do Not Connect. Do not connect to these pins.", 6 DNC|ORB- (hiz), 7 DNC|ORB+ (hiz), 8 DNC "Do Not Connect. Do not connect to these pins.", 9 DNC "Do Not Connect. Do not connect to these pins.", 10 DRVDD (power) "Digital Output Driver Supply (1.8 V Nominal).", 11 DNC|B 0/D0- (LSB) (hiz), 12 DNC|B 0/D0+(LSB) (hiz), 13 DNC|B D1-/D2- (hiz), 14 DNC|B D1+/D2+ (hiz), 15 D0- (LSB)|B D3-/D4- (hiz), 16 D0+ (LSB)|B D3+/D4+ (hiz), 17 D1-|B D5-/D6- (hiz), 18 D1+|B D5+/D6+ (hiz), 19 DRVDD (power) "Digital Output Driver Supply (1.8 V Nominal).", 20 D2-|B D7-/D8- (hiz), 21 D2+|B D7+/D8+ (hiz), 22 D3-|B D9-/D10- (MSB) (hiz), 23 D3+|B D9+/D10+ (MSB) (hiz), 24 DCO- (out) "Channel A/Channel B LVDS Data Clock Output--Complement.", 25 DCO+ (out) "Channel A/Channel B LVDS Data Clock Output--True.", 26 D4-|DNC (hiz), 27 D4+|DNC (hiz), 28 DRVDD (power) "Digital Output Driver Supply (1.8 V Nominal).", 29 D5-|A 0/D0- (LSB) (hiz), 30 D5+|A 0/D0+ (LSB) (hiz), 31 D6-|A D1-/D2- (hiz), 32 D6+|A D1+/D2+ (hiz), 33 D7-|A D3-/D4- (hiz), 34 D7+|A D3+/D4+ (hiz), 35 D8-|A D5-/D6- (hiz), 36 D8+|A D5+/D6+ (hiz), 37 DRVDD (power) "Digital Output Driver Supply (1.8 V Nominal).", 38 D9-|A D7-/D8- (hiz), 39 D9+|A D7+/D8+ (hiz), 40 D10- (MSB)|A D9-/D10-(MSB) (hiz), 41 D10+ (MSB)|A D9+/D10+(MSB) (hiz), 42 OR-|ORA- (hiz), 43 OR+|ORA+ (hiz), 44 SDIO (io) "SPI Serial Data I/O. A dual purpose pin that typically serves as an input or an output, depending on the instruction being sent and the relative position in the timing frame.", 45 SCLK (in) "SPI Serial Clock. The serial shift clock input, which is used to synchronize serial interface reads and writes.", 46 CSB (in) "serial interface reads and writes.", 47 OEB (in) "Output Enable Bar Input (Active Low).", 48 PDWN (in) "Power-Down Input (Active High). The operation of this pin depends on the SPI mode and can be configured as power-down or standby (see Table 14).", 49 AVDD (power) "Analog Power Supply (1.8 V Nominal).", 50 AVDD (power) "Analog Power Supply (1.8 V Nominal).", 51 VIN+A (in) "Differential Analog Input Pin (+) for Channel A.", 52 VIN-A (in) "Differential Analog Input Pin (-) for Channel A.", 53 AVDD (power) "Analog Power Supply (1.8 V Nominal).", 54 AVDD (power) "Analog Power Supply (1.8 V Nominal).", 55 DNC "Do Not Connect. Do not connect to these pins.", 56 DNC "Do Not Connect. Do not connect to these pins.", 57 VCM (out) "Common-Mode Level Bias Output for Analog Inputs. This pin should be decoupled to ground using a 0.1 uf capacitor.", 58 DNC "Do Not Connect. Do not connect to these pins.", 59 AVDD (power) "Analog Power Supply (1.8 V Nominal).", 60 AVDD (power) "Analog Power Supply (1.8 V Nominal).", 61 VIN-B (in) "Differential Analog Input Pin (-) for Channel B.", 62 VIN+B (in) "Differential Analog Input Pin (+) for Channel B.", 63 AVDD (power) "Analog Power Supply (1.8 V Nominal).", 64 AVDD (power) "Analog Power Supply (1.8 V Nominal).", 65 EP (power) "Analog Ground. The exposed thermal paddle on the bottom of the package provides the analog ground for the device. This exposed paddle must be connected to ground for proper operation."

## AD6644ASTZ-40
designator U?
Single 14-Bit Analog-to-Digital Converter with Parallel Interface, 40MSPS, -25 to +85 degC, ST-52, Pb-Free, Tray; Generic Part Number: AD6644-40; Manufacturer: Analog Devices; PartNumber: AD6644ASTZ-40; Resolution (Bits): 14; Channels: 1; Throughput Rate (SPS): 40M; Interface: Par; DatasheetVersion: Rev.D; PackageVersion: 2003; PackageReference: ST-52; PackageDescription: 52-Lead Low Profile Quad Flat Package [LQFP]; Supplier 1: Digi-Key; Supplier Part Number 1: AD6644ASTZ-40-ND; Supplier 2: Mouser; Supplier Part Number 2: 584-AD6644ASTZ-40; RoHS: Y; Packing: Tray; Mounting Technology: Surface Mount; Code_JEDEC: MS-026-BCC; ComponentLink1Description: Manufacturer URL; ComponentLink1URL: http://www.analog.com/en/index.html; ComponentLink2Description: Datasheet; ComponentLink2URL: http://www.analog.com/static/imported-files/data_sheets/AD6644.pdf; ComponentLink3Description: Package Specification; ComponentLink3URL: http://www.analog.com/static/imported-files/packages/61012411624300842189414155189544791816408612ST_52_10x10.pdf; ComponentLink4Description: Product URL; ComponentLink4URL: http://www.analog.com/en/analog-to-digital-converters/ad-converters/ad6644/products/product.html
footprint ST-52_N (Thin QFP, 52-Leads, Body 10 x 10mm, Pitch 0.65mm, IPC Medium Density)
footprint ST-52_L (Thin QFP, 52-Leads, Body 10 x 10mm, Pitch 0.65mm, IPC High Density)
footprint ST-52_M (Thin QFP, 52-Leads, Body 10 x 10mm, Pitch 0.65mm, IPC Low Density)
part A pins: 3 VREF (out) "2.4 V (Analog Reference). Bypass to ground with 0.1 uF microwave chip capacitor.", 5 ENCODE (in) "Encode Input. Conversion initiated on rising edge.", 6 ~{ENCODE} (in) "Complement of ENCODE. Differential input.", 11 AIN (in) "Analog Input.", 12 ~{AIN} (in) "Complement of AIN. Differential analog input.", 20 C1 "Internal Voltage Reference. Bypass to ground with 0.1 uF microwave chip capacitor.", 24 C2 "Internal Voltage Reference. Bypass to ground with 0.1 uF microwave chip capacitor.", 31 DNC "Do not connect this pin.", 32 OVR (out) "Overrange Bit. High indicates analog input exceeds +/-FS.", 35 DMID (out) "Output Data Voltage Midpoint. Approximately equal to DVCC/2.", 36 D0 (LSB) (out) "Digital Output Bit (Least Significant Bit). Twos complement.", 37 D1 (out) "Digital Output Bits in Twos Complement.", 38 D2 (out) "Digital Output Bits in Twos Complement.", 39 D3 (out) "Digital Output Bits in Twos Complement.", 40 D4 (out) "Digital Output Bits in Twos Complement.", 41 D5 (out) "Digital Output Bits in Twos Complement.", 44 D6 (out) "Digital Output Bits in Twos Complement.", 45 D7 (out) "Digital Output Bits in Twos Complement.", 46 D8 (out) "Digital Output Bits in Twos Complement.", 47 D9 (out) "Digital Output Bits in Twos Complement.", 48 D10 (out) "Digital Output Bits in Twos Complement.", 49 D11 (out) "Digital Output Bits in Twos Complement.", 50 D12 (out) "Digital Output Bits in Twos Complement.", 51 D13 (MSB) (out) "Digital Output Bit (Most Significant Bit). Twos complement.", 52 DRY (out) "Data Ready Output."
part B pins: 1 DVCC (power) "3.3 V Power Supply (Digital), Output Stage Only.", 2 GND (power) "Ground.", 4 GND (power) "Ground.", 7 GND (power) "Ground.", 8 AVCC (power) "5 V Analog Power Supply.", 9 AVCC (power) "5 V Analog Power Supply.", 10 GND (power) "Ground.", 13 GND (power) "Ground.", 14 AVCC (power) "5 V Analog Power Supply.", 15 GND (power) "Ground.", 16 AVCC (power) "5 V Analog Power Supply.", 17 GND (power) "Ground.", 18 AVCC (power) "5 V Analog Power Supply.", 19 GND (power) "Ground.", 21 GND (power) "Ground.", 22 AVCC (power) "5 V Analog Power Supply.", 23 GND (power) "Ground.", 25 GND (power) "Ground.", 26 AVCC (power) "5 V Analog Power Supply.", 27 GND (power) "Ground.", 28 AVCC (power) "5 V Analog Power Supply.", 29 GND (power) "Ground.", 30 AVCC (power) "5 V Analog Power Supply.", 33 DVCC (power) "3.3 V Power Supply (Digital), Output Stage Only.", 34 GND (power) "Ground.", 42 GND (power) "Ground.", 43 DVCC (power) "3.3 V Power Supply (Digital), Output Stage Only."

## AD6644ASTZ-65
designator U?
Single 14-Bit Analog-to-Digital Converter with Parallel Interface, 65MSPS, -25 to +85 degC, ST-52, Pb-Free, Tray; Generic Part Number: AD6644-65; Manufacturer: Analog Devices; PartNumber: AD6644ASTZ-65; Resolution (Bits): 14; Channels: 1; Throughput Rate (SPS): 65M; Interface: Par; DatasheetVersion: Rev.D; PackageVersion: 2003; PackageReference: ST-52; PackageDescription: 52-Lead Low Profile Quad Flat Package [LQFP]; Supplier 1: Digi-Key; Supplier Part Number 1: AD6644ASTZ-65-ND; Supplier 2: Newark; Supplier Part Number 2: 59K4484; Supplier 3: Mouser; Supplier Part Number 3: 584-AD6644ASTZ-65; RoHS: Y; Packing: Tray; Mounting Technology: Surface Mount; Code_JEDEC: MS-026-BCC; ComponentLink1Description: Manufacturer URL; ComponentLink1URL: http://www.analog.com/en/index.html; ComponentLink2Description: Datasheet; ComponentLink2URL: http://www.analog.com/static/imported-files/data_sheets/AD6644.pdf; ComponentLink3Description: Package Specification; ComponentLink3URL: http://www.analog.com/static/imported-files/packages/61012411624300842189414155189544791816408612ST_52_10x10.pdf; ComponentLink4Description: Product URL; ComponentLink4URL: http://www.analog.com/en/analog-to-digital-converters/ad-converters/ad6644/products/product.html
footprint ST-52_N (Thin QFP, 52-Leads, Body 10 x 10mm, Pitch 0.65mm, IPC Medium Density)
footprint ST-52_L (Thin QFP, 52-Leads, Body 10 x 10mm, Pitch 0.65mm, IPC High Density)
footprint ST-52_M (Thin QFP, 52-Leads, Body 10 x 10mm, Pitch 0.65mm, IPC Low Density)
part A pins: 3 VREF "2.4 V (Analog Reference). Bypass to ground with 0.1 uF microwave chip capacitor.", 5 ENCODE (in) "Encode Input. Conversion initiated on rising edge.", 6 ~{ENCODE} (in) "Complement of ENCODE. Differential input.", 11 AIN (in) "Analog Input.", 12 ~{AIN} (in) "Complement of AIN. Differential analog input.", 20 C1 "Internal Voltage Reference. Bypass to ground with 0.1 uF microwave chip capacitor.", 24 C2 "Internal Voltage Reference. Bypass to ground with 0.1 uF microwave chip capacitor.", 31 DNC "Do not connect this pin.", 32 OVR (out) "Overrange Bit. High indicates analog input exceeds +/-FS.", 35 DMID (out) "Output Data Voltage Midpoint. Approximately equal to DVCC/2.", 36 D0 (LSB) (out) "Digital Output Bit (Least Significant Bit). Twos complement.", 37 D1 (out) "Digital Output Bits in Twos Complement.", 38 D2 (out) "Digital Output Bits in Twos Complement.", 39 D3 (out) "Digital Output Bits in Twos Complement.", 40 D4 (out) "Digital Output Bits in Twos Complement.", 41 D5 (out) "Digital Output Bits in Twos Complement.", 44 D6 (out) "Digital Output Bits in Twos Complement.", 45 D7 (out) "Digital Output Bits in Twos Complement.", 46 D8 (out) "Digital Output Bits in Twos Complement.", 47 D9 (out) "Digital Output Bits in Twos Complement.", 48 D10 (out) "Digital Output Bits in Twos Complement.", 49 D11 (out) "Digital Output Bits in Twos Complement.", 50 D12 (out) "Digital Output Bits in Twos Complement.", 51 D13 (MSB) (out) "Digital Output Bit (Most Significant Bit). Twos complement.", 52 DRY (out) "Data Ready Output."
part B pins: 1 DVCC (power) "3.3 V Power Supply (Digital), Output Stage Only.", 2 GND (power) "Ground.", 4 GND (power) "Ground.", 7 GND (power) "Ground.", 8 AVCC (power) "5 V Analog Power Supply.", 9 AVCC (power) "5 V Analog Power Supply.", 10 GND (power) "Ground.", 13 GND (power) "Ground.", 14 AVCC (power) "5 V Analog Power Supply.", 15 GND (power) "Ground.", 16 AVCC (power) "5 V Analog Power Supply.", 17 GND (power) "Ground.", 18 AVCC (power) "5 V Analog Power Supply.", 19 GND (power) "Ground.", 21 GND (power) "Ground.", 22 AVCC (power) "5 V Analog Power Supply.", 23 GND (power) "Ground.", 25 GND (power) "Ground.", 26 AVCC (power) "5 V Analog Power Supply.", 27 GND (power) "Ground.", 28 AVCC (power) "5 V Analog Power Supply.", 29 GND (power) "Ground.", 30 AVCC (power) "5 V Analog Power Supply.", 33 DVCC (power) "3.3 V Power Supply (Digital), Output Stage Only.", 34 GND (power) "Ground.", 42 GND (power) "Ground.", 43 DVCC (power) "3.3 V Power Supply (Digital), Output Stage Only."